# EAGLE library part 3M9541-13 (library Fitch_Eagle_Library)
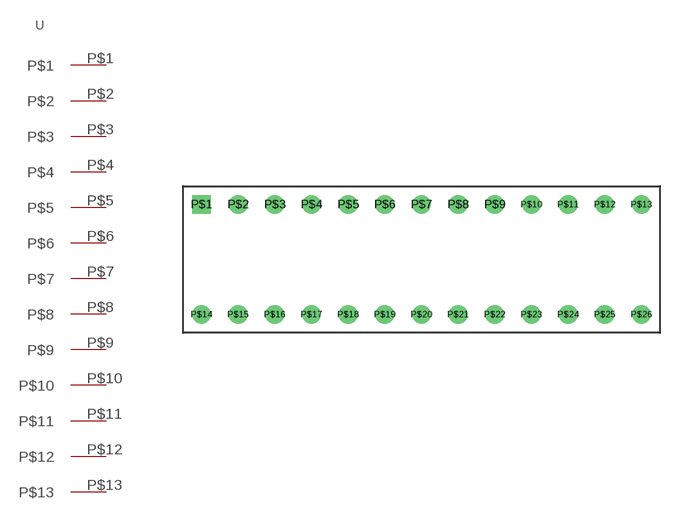
[diagram p17: symbol with the pads of 3M9541-13; footprint 3M9541-13]

Designator prefix -

## 3M9541-13  [3M9541-13]
P$1  P$1
P$2  P$2
P$3  P$3
P$4  P$4
P$5  P$5
P$6  P$6
P$7  P$7
P$8  P$8
P$9  P$9
P$10  P$10
P$11  P$11
P$12  P$12
P$13  P$13

## Footprint 3M9541-13 (pad centres in mm)
drill 0.8 square: P$1 -15.24,0
drill 0.8: P$2 -12.7,0; P$3 -10.16,0; P$4 -7.62,0; P$5 -5.08,0; P$6 -2.54,0; P$7 0,0; P$8 2.54,0; P$9 5.08,0; P$10 7.62,0; P$11 10.16,0; P$12 12.7,0; P$13 15.24,0; P$14 -15.24,-7.62; P$15 -12.7,-7.62; P$16 -10.16,-7.62; P$17 -7.62,-7.62; P$18 -5.08,-7.62; P$19 -2.54,-7.62; P$20 0,-7.62; P$21 2.54,-7.62; P$22 5.08,-7.62; P$23 7.62,-7.62; P$24 10.16,-7.62; P$25 12.7,-7.62; P$26 15.24,-7.62